# Altium schematic symbol library 3mm IR LED.SchLib: 1 symbol
Pins are listed as number, name and electrical type; pins without a type are passive.

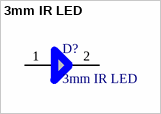
[diagram p0: symbol 3mm IR LED]

## 3mm IR LED
designator D?
footprint 3mm IR LED
pins: 1, 2 1